# Altium schematic symbol library LN3940.SchLib: 1 symbol
Pins are listed as number, name and electrical type; pins without a type are passive.

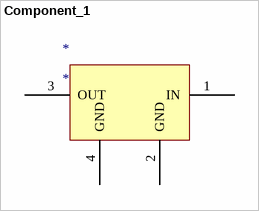
[diagram p0: symbol Component_1]

## Component_1
designator *
pins: 1 IN, 2 GND, 3 OUT, 4 GND